# Altium schematic symbol library 6SCubeSat.SchLib: 5 symbols
Pins are listed as number, name and electrical type; pins without a type are passive.

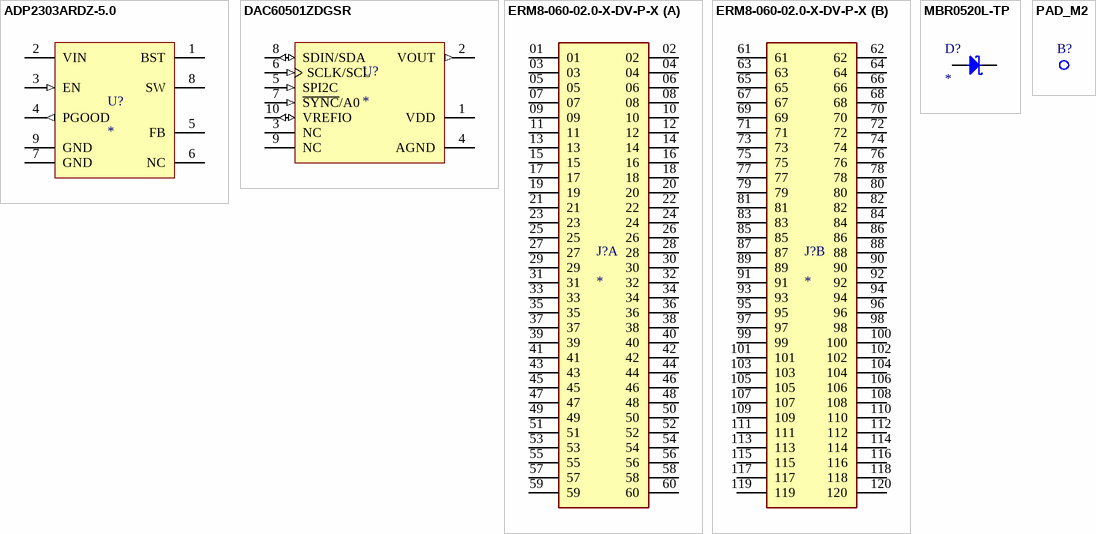
[diagram p0: symbols ADP2303ARDZ-5.0 to PAD_M2]

## ADP2303ARDZ-5.0
designator U?
Conv DC-DC 3V to 20V Step Down Single-Out 5V 3A 8-Pin SOIC N EP T/R; Manufacturer: Analog Devices; Manufacturer Part Number: ADP2303ARDZ; Output Voltage: 800mV; Switching Frequency: 700kHz; Number of Outputs: 1; Operating Supply Current: 950uA; Max Output Voltage: 16V; Output Type: Adjustable; Synchronous Rectifier: No; Rise Time: 170ns; Fall Time: 280ns; Max Duty Cycle: 50%; Output Configuration: Positive; Supplier 1: Digi-Key; RoHS: Yes; Category: Voltage Regulators - Switching; Stock 1: 392; Pricing 1: 1=3.82000, 10=3.43100, 25=3.24360, 100=2.81110, 250=2.66696, 500=2.39306, 1000=2.24400 (USD); Mount: Surface Mount; Case/Package: SOIC; Number of Pins: 8; Contact Plating: Tin,Matte; Weight: 0.019048oz; Min Operating Temperature: -40°C; Max Operating Temperature: 125°C; Output Current: 3A; Packaging: Rail/Tube; Max Input Voltage: 20V; Min Input Voltage: 3V; Max Output Current: 3A; Min Output Voltage: 800mV; Frequency: 700kHz; Package Quantity: 98; Length: 4.9mm; Width: 4mm; Height: 1.65mm; Radiation Hardening: No; Lead Free: Contains Lead; REACH SVHC: No SVHC; ComponentLink1URL: https://datasheet.ciiva.com/25626/0900766b810b59f9-25626473.pdf?src-supplier=RSComponents; ComponentLink1Description: https://datasheet.ciiva.com/25626/0900766b810b59f9-25626473.pdf?src-supplier=RSComponents; ComponentLink2URL: https://datasheet.ciiva.com/1161/1624274-1161217.pdf?src-supplier=Element14; ComponentLink2Description: https://datasheet.ciiva.com/1161/1624274-1161217.pdf?src-supplier=Element14; ComponentLink3URL: https://datasheet.ciiva.com/2031/adp2302-2303-2031522.pdf?src-supplier=Digi-Key; ComponentLink3Description: https://datasheet.ciiva.com/2031/adp2302-2303-2031522.pdf?src-supplier=Digi-Key; ComponentLink4URL: https://datasheet.ciiva.com/26909/getdatasheetpartid-553031-26909018.pdf?src-supplier=Verical; ComponentLink4Description: https://datasheet.ciiva.com/26909/getdatasheetpartid-553031-26909018.pdf?src-supplier=Verical; ComponentLink5URL: https://datasheet.ciiva.com/1165/adp2302-2303-1165371.pdf?src-supplier=Farnell; ComponentLink5Description: https://datasheet.ciiva.com/1165/adp2302-2303-1165371.pdf?src-supplier=Farnell; ComponentLink6URL: https://datasheet.ciiva.com/16621/adp2302-2303-16621054.pdf?src-supplier=Avnet+Europe; ComponentLink6Description: https://datasheet.ciiva.com/16621/adp2302-2303-16621054.pdf?src-supplier=Avnet+Europe; ComponentLink7URL: https://datasheet.ciiva.com/3244/adp2302-2303-3244751.pdf?src-supplier=Avnet; ComponentLink7Description: https://datasheet.ciiva.com/3244/adp2302-2303-3244751.pdf?src-supplier=Avnet; ComponentLink8URL: https://datasheet.ciiva.com/48696/001251162-da-01-en-ic-reg-buck-adj-3-adp2303ardz-soic-8-adi-48696837.pdf?src-supplier=Conrad; ComponentLink8Description: https://datasheet.ciiva.com/48696/001251162-da-01-en-ic-reg-buck-adj-3-adp2303ardz-soic-8-adi-48696837.pdf?src-supplier=Conrad; Supplier 2: Digi-Key; Stock 2: 585; Pricing 2: 1=3.82000, 10=3.43100, 25=3.24360, 100=2.81110, 250=2.66696, 500=2.39306 (USD); Operating Supply Voltage: 20V; Series: -; Nominal Output Voltage: 5V; RoHS Compliant: Yes; ComponentLink9URL: https://datasheet.ciiva.com/25626/0900766b810b59f9-25626508.pdf?src-supplier=RSComponents; ComponentLink9Description: https://datasheet.ciiva.com/25626/0900766b810b59f9-25626508.pdf?src-supplier=RSComponents; ComponentLink10URL: https://datasheet.ciiva.com/2024/adp2302-2303-2024384.pdf?src-supplier=Digi-Key; ComponentLink10Description: https://datasheet.ciiva.com/2024/adp2302-2303-2024384.pdf?src-supplier=Digi-Key; ComponentLink11URL: https://datasheet.ciiva.com/2024/adp2302-2303-2024383.pdf?src-supplier=Digi-Key; ComponentLink11Description: https://datasheet.ciiva.com/2024/adp2302-2303-2024383.pdf?src-supplier=Digi-Key; ComponentLink12URL: https://datasheet.ciiva.com/28436/1624274-28436554.pdf?src-supplier=Element14; ComponentLink12Description: https://datasheet.ciiva.com/28436/1624274-28436554.pdf?src-supplier=Element14; ComponentLink13URL: https://datasheet.ciiva.com/2024/adp2302-2303-2024382.pdf?src-supplier=Digi-Key; ComponentLink13Description: https://datasheet.ciiva.com/2024/adp2302-2303-2024382.pdf?src-supplier=Digi-Key; ComponentLink14URL: https://datasheet.ciiva.com/7994/1624274-7994911.pdf?src-supplier=Element14; ComponentLink14Description: https://datasheet.ciiva.com/7994/1624274-7994911.pdf?src-supplier=Element14; ComponentLink15URL: https://datasheet.ciiva.com/48696/001251161-da-01-en-ic-reg-buc-adp2303ardz-5-0-r7-soic-8-adi-48696838.pdf?src-supplier=Conrad; ComponentLink15Description: https://datasheet.ciiva.com/48696/001251161-da-01-en-ic-reg-buc-adp2303ardz-5-0-r7-soic-8-adi-48696838.pdf?src-supplier=Conrad; Supplier Part Number 2: 505-ADP2303ARDZ-5.0-R7CT-ND
footprint SOIC127P610X167-9N-R245X335 (SOIC, 1.27mm pitch; 8 pin, 3.89mm W X 4.90mm L X 1.67mm H body (w/thermal tab 2.45mm X 3.35mm), IPC Medium Density)
pins: 1 BST (power), 2 VIN (power), 3 EN (in), 4 PGOOD (out), 5 FB (power), 6 NC, 7 GND (power), 8 SW (power), 9 GND (power)

## DAC60501ZDGSR
designator U?
12-Bit Voltage Output DAC with Precision Internal Reference 1-LSB INL 10-Pin VSSOP T/R; Manufacturer: Texas Instruments; Manufacturer Part Number: DAC60501ZDGSR; Supplier 1: Digi-Key; RoHS: Yes; Category: Digital to Analog Converters (DACs); Stock 1: 238; Pricing 1: 1=2.86000, 10=2.57000, 25=2.42480, 100=2.06590, 250=1.93980, 500=1.69732, 1000=1.60125 (USD); RoHS Compliant: Yes; Supplier Part Number 1: 296-DAC60501ZDGSRCT-ND
footprint SOP50P490X110-10N (MSOP, 10-Leads, Body 3.1x3.1mm (max), Pitch 0.50mm, IPC Medium Density)
pins: 1 VDD (power), 2 VOUT (out), 3 NC, 4 AGND (power), 5 SPI2C (in), 6 SCLK/SCL (in), 7 ~{SYNC}/A0 (in), 8 SDIN/SDA (io), 9 NC, 10 VREFIO (io)

## ERM8-060-02.0-X-DV-P-X
designator J?
Board to Board & Mezzanine Connectors 0.80 mm Edge Rate Rugged High-Speed Terminal Strip; MP: ERM8-060-02.0-S-DV-P-TR; MF: Samtec; Availability: Not in stock; Price: None; Package: None; Value: *; SnapEDA_Link: https://www.snapeda.com/parts/ERM8-060-02.0-S-DV-P-TR/Samtec/view-part/3276817/?ref=snap; Check_prices: https://www.snapeda.com/parts/ERM8-060-02.0-S-DV-P-TR/Samtec/view-part/3276817/?ref=eda; Purchase-URL: https://pricing.snapeda.com/search/part/ERM8-060-02.0-S-DV-P-TR/?ref=eda
footprint SAMTEC_ERM8-060-02.0-X-DV-P-X
part A pins: 01, 02, 03, 04, 05, 06, 07, 08, 09, 10, 11, 12, 13, 14, 15, 16, 17, 18, 19, 20, 21, 22, 23, 24, 25, 26, 27, 28, 29, 30, 31, 32, 33, 34, 35, 36, 37, 38, 39, 40, 41, 42, 43, 44, 45, 46, 47, 48, 49, 50, 51, 52, 53, 54, 55, 56, 57, 58, 59, 60
part B pins: 61, 62, 63, 64, 65, 66, 67, 68, 69, 70, 71, 72, 73, 74, 75, 76, 77, 78, 79, 80, 81, 82, 83, 84, 85, 86, 87, 88, 89, 90, 91, 92, 93, 94, 95, 96, 97, 98, 99, 100, 101, 102, 103, 104, 105, 106, 107, 108, 109, 110, 111, 112, 113, 114, 115, 116, 117, 118, 119, 120

## MBR0520L-TP
designator D?
Diode Schottky 20V 0.5A 2-Pin SOD-123 T/R; Manufacturer: MCC; Manufacturer Part Number: MBR0520-TP; Forward Voltage: 450mV; Max Reverse Current: 200uA; Average Rectified Current: 500mA; Max Forward Surge Current (Ifsm): 5.5A; Element Configuration: Single; Polarity: Standard; Capacitance: 30pF; Supplier 1: Future Electronics; RoHS: Yes; Category: Schottky Diodes; Stock 1: 3000; Pricing 1: 3000=0.06080, 9000=0.05070, 15000=0.05020, 45000=0.04910, 75000=0.04860 (USD); Mount: Surface Mount; Number of Pins: 2; Min Operating Temperature: -55°C; Max Operating Temperature: 150°C; Packaging: Tape and Reel; Package Quantity: 1; Max Repetitive Reverse Voltage (Vrrm): 20V; Max Reverse Voltage (DC): 20V; Forward Current: 500mA; Peak Non-Repetitive Surge Current: 5.5A; Voltage Rating (DC): 20V; Current Rating: 500mA; Output Current: 500mA; Series: MBR0520; Radiation Hardening: No; Lead Free: Lead Free; RoHS Compliant: Yes; REACH SVHC: Unknown; ComponentLink1URL: https://datasheet.ciiva.com/23684/1699590-23684328.pdf?src-supplier=Newark; ComponentLink1Description: https://datasheet.ciiva.com/23684/1699590-23684328.pdf?src-supplier=Newark; ComponentLink2URL: https://datasheet.ciiva.com/15200/getdatasheetpartid-202300-15200502.pdf?src-supplier=Verical; ComponentLink2Description: https://datasheet.ciiva.com/15200/getdatasheetpartid-202300-15200502.pdf?src-supplier=Verical; ComponentLink3URL: https://datasheet.ciiva.com/912/mbr0520mbr0580sod123-912327.pdf?src-supplier=Digi-Key; ComponentLink3Description: https://datasheet.ciiva.com/912/mbr0520mbr0580sod123-912327.pdf?src-supplier=Digi-Key; ComponentLink4URL: https://datasheet.ciiva.com/912/mbr0520mbr0580sod123-912328.pdf?src-supplier=Digi-Key; ComponentLink4Description: https://datasheet.ciiva.com/912/mbr0520mbr0580sod123-912328.pdf?src-supplier=Digi-Key; ComponentLink5URL: https://datasheet.ciiva.com/912/mbr0520mbr0580sod123-912329.pdf?src-supplier=Digi-Key; ComponentLink5Description: https://datasheet.ciiva.com/912/mbr0520mbr0580sod123-912329.pdf?src-supplier=Digi-Key; ComponentLink6URL: https://datasheet.ciiva.com/7963/1699590-7963290.pdf?src-supplier=Element14; ComponentLink6Description: https://datasheet.ciiva.com/7963/1699590-7963290.pdf?src-supplier=Element14; ComponentLink7URL: https://datasheet.ciiva.com/28381/1699590-28381979.pdf?src-supplier=Element14; ComponentLink7Description: https://datasheet.ciiva.com/28381/1699590-28381979.pdf?src-supplier=Element14; Supplier Part Number 1: 7013061
footprint SOD3715X135N (SOD Diode (SOD-123); 2.70mm W X 1.55mm L X 1.35mm H body, IPC Medium Density)
pins: 1 C, 2 A

## PAD_M2
designator B?  (value not drawn)
footprint PAD_M2
pins: 1 (io)